# EAGLE library part PMOD-HDMI-D (library Mechanical)
HDMI D connector used as Pmod Connector
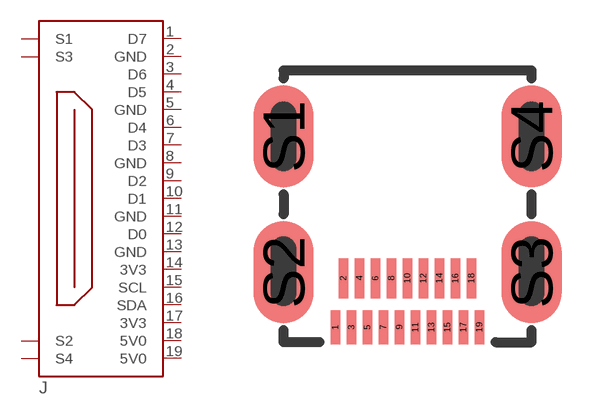
[diagram p80: symbol with the pads of HDMI-D1; footprint HDMI-D1]

Designator prefix J

## PMOD-HDMI-D  [HDMI-D1]
1  D7
2  GND
3  D6
4  D5
5  GND
6  D4
7  D3
8  GND
9  D2
10  D1
11  GND
12  D0
13  GND
14  3V3
15  SCL
16  SDA
17  3V3
18  5V0
19  5V0
S1  S1
S2  S2
S3  S3
S4  S4

## Footprint HDMI-D1 (pad centres in mm)
Chant Sincere Co. Micro HDMI D1, Female
smd 0.23 x 0.85: 1 -1.8,-1.225; 3 -1.4,-1.225; 5 -1,-1.225; 7 -0.6,-1.225; 9 -0.2,-1.225; 11 0.2,-1.225; 13 0.6,-1.225; 15 1,-1.225; 17 1.4,-1.225; 19 1.8,-1.225
smd 0.23 x 1: 2 -1.6,0; 4 -1.2,0; 6 -0.8,0; 8 -0.4,0; 10 0,0; 12 0.4,0; 14 0.8,0; 16 1.2,0; 18 1.6,0
smd 1.5 x 2.55: S1 -3.1,3.55; S2 -3.1,0.15; S3 3.1,0.15; S4 3.1,3.55